# Altium schematic symbol library TPS3825.SchLib: 1 symbol
Pins are listed as number, name and electrical type; pins without a type are passive.

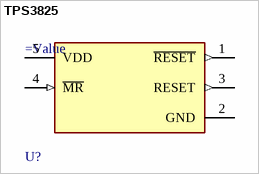
[diagram p0: symbol TPS3825]

## TPS3825
designator U?
pins: 1 ~{RESET} (out), 2 GND (power), 3 RESET (out), 4 ~{MR} (in), 5 VDD (power)